# Altium footprint library SamacSys.PcbLib: 47 footprints (part 2 of 3)
Each footprint in its own frame and in the unit in brackets; x right, y up, seen from the top. Pads: shape width x height; smd on the part's side, far side on the other; paste and mask are expansions set on the pad; w line width, h text height; cw(c..) or ccw(c..) is an arc to the next point about the centre after c.
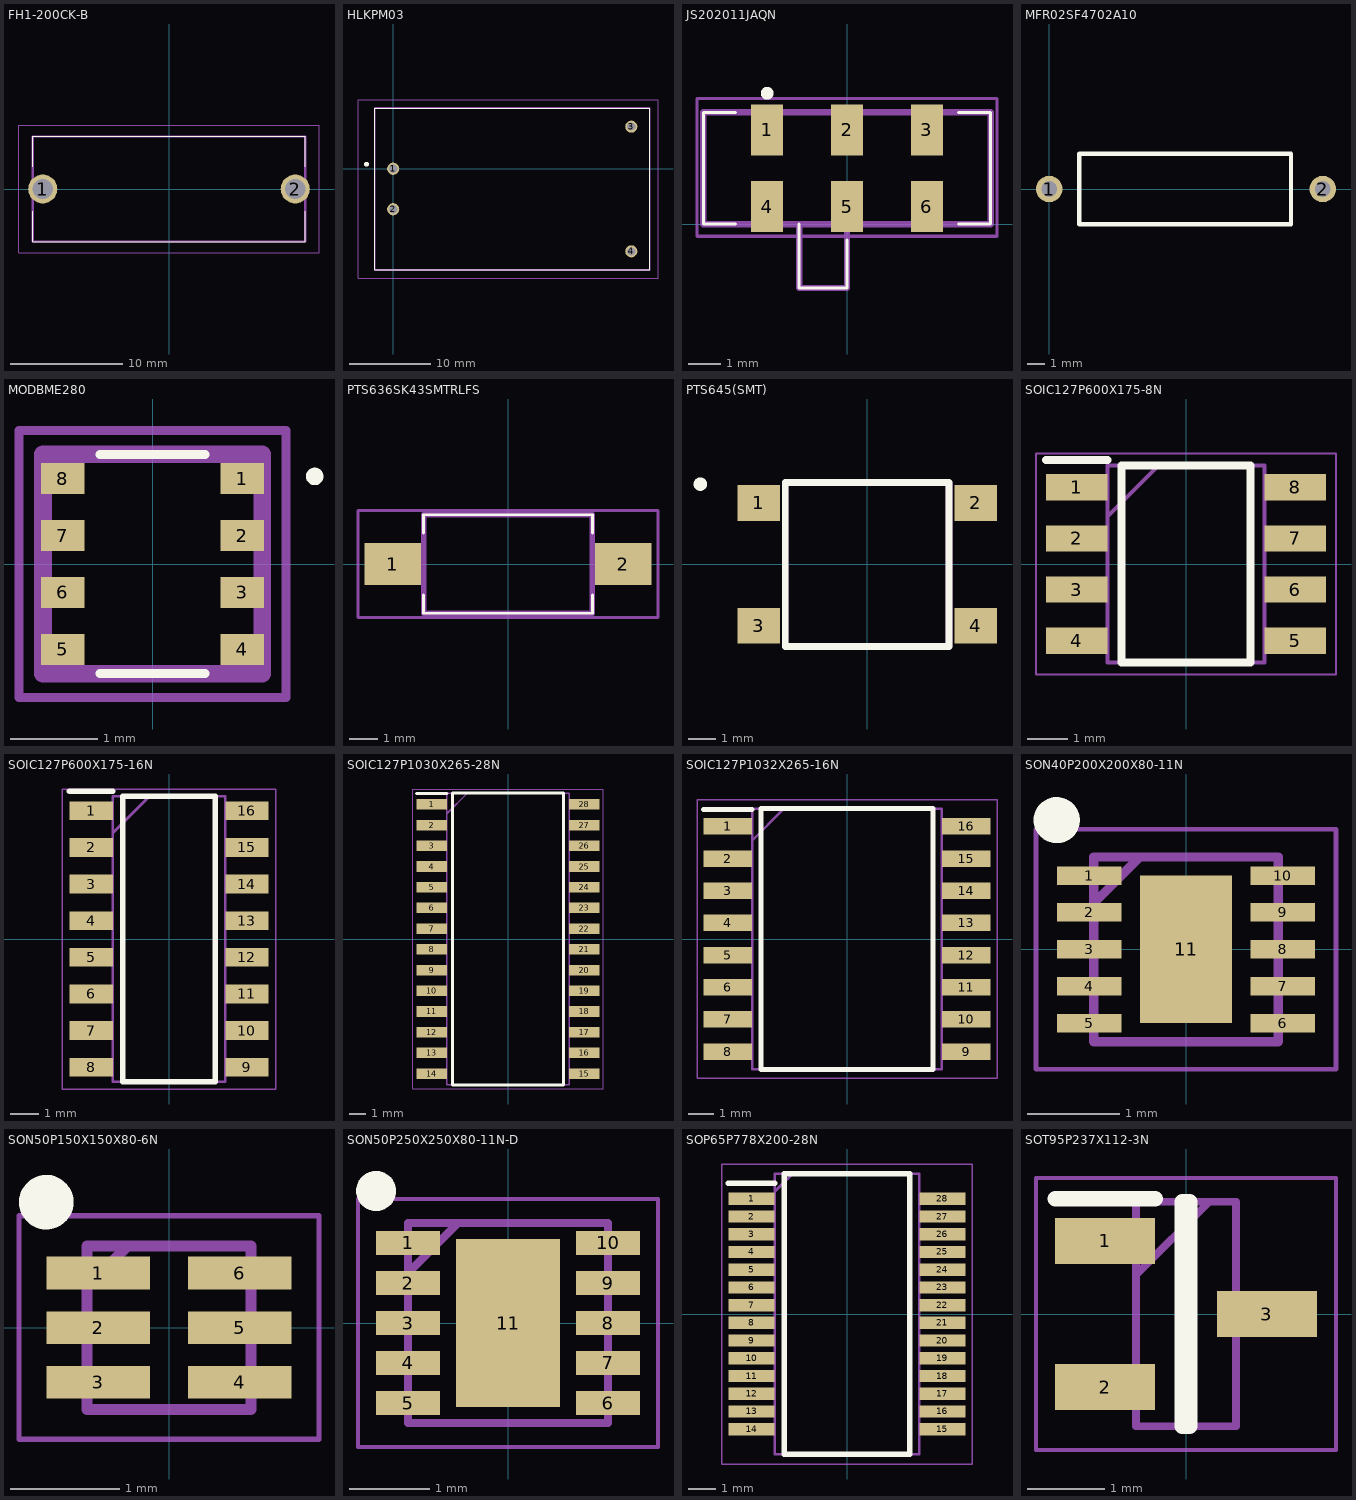
[diagram p1: the footprints below, top view; thin cyan lines are the x and y axes]

## FH1-200CK-B [mm]
pads (2):
  round 2.6 hole 1.8: 1(-11.3,0) 2(11.3,0)
Top Overlay:
  lines w0.1: -12.2,-2 -12.2,-4.7 12.2,-4.7 12.2,-2 ; -12.2,2 -12.2,4.7 12.2,4.7 12.2,2
Mechanical 13:
  lines w0.2: -12.2,-4.7 -12.2,4.7 12.2,4.7 12.2,-4.7 -12.2,-4.7
Mechanical 15:
  lines w0.1: -13.425,-5.7 -13.425,5.7 13.425,5.7 13.425,-5.7 -13.425,-5.7
3D body "0PTF0078P.stp": height 11.45, standoff -3.55, extent -12.2,-4.7 12.2,4.7

## HLKPM03 [mm]
pads (4):
  round 1.5 hole 1: 1(0,0) 2(0,-5) 3(29.4,5.2) 4(29.4,-10.2)
Top Overlay:
  lines w0.1: -2.3,-12.5 -2.3,7.5 31.7,7.5 31.7,-12.5 -2.3,-12.5
  lines w0.5: -3.3,0.5 cw(c-3.3,0.55) -3.3,0.6 cw(c-3.3,0.55) -3.3,0.5
Mechanical 13:
  lines w0.2: -2.3,-12.5 -2.3,7.5 31.7,7.5 31.7,-12.5 -2.3,-12.5
Mechanical 15:
  lines w0.1: -4.35,-13.5 -4.35,8.5 32.7,8.5 32.7,-13.5 -4.35,-13.5
3D body "HLK-PM03.stp": height 15.28, standoff -4.77, extent -2.25,-12.49 31.75,7.51

## JS202011JAQN [mm]
pads (6):
  rect 1x1.6 smd: 1(-2.5,2.95) 2(0,2.95) 3(2.5,2.95) 4(-2.5,0.55) 5(0,0.55) 6(2.5,0.55)
Top Overlay:
  lines w0.1: -3.5,0 -4.5,0 -4.5,3.5 -3.5,3.5 ; -1.5,0 -1.5,-2 0,-2 0,-0.5 ; 3.5,0 4.5,0 4.5,3.5 3.5,3.5
  lines w0.2: -2.6,4.1 cw(c-2.5,4.1) -2.4,4.1 cw(c-2.5,4.1) -2.6,4.1
Mechanical 13:
  lines w0.2: -1.5,0 -1.5,-2 0,-2 0,0 ; -4.5,0 4.5,0 4.5,3.5 -4.5,3.5 -4.5,0
Mechanical 15:
  lines w0.1: -4.699,-0.381 4.699,-0.381 4.699,3.937 -4.699,3.937 -4.699,-0.381
3D body "JS202011JAQN.step": height 3.57, standoff -0.03, extent -4.5,-2 4.5,3.55

## MFR02SF4702A10 [mm]
pads (2):
  round 1.5 hole 0.9: 1(0,0) 2(15.5,0)
Top Overlay:
  lines w0.254: 1.7,-2 1.7,-0.2 1.7,2 13.7,2 13.7,-2 1.7,-2

## MODBME280 [mm]
pads (8):
  rect 0.5x0.35 smd: 1(1.025,0.975) 2(1.025,0.325) 3(1.025,-0.325) 4(1.025,-0.975) 5(-1.025,-0.975) 6(-1.025,-0.325) 7(-1.025,0.325) 8(-1.025,0.975)
Top Overlay:
  lines w0.1: -0.6,-1.25 0.6,-1.25 ; -0.6,1.25 0.6,1.25 ; 1.8,1 cw(c1.85,1) 1.9,1 cw(c1.85,1) 1.8,1
Mechanical 13:
  lines w0.2: -1.25,-1.25 -1.25,1.25 1.25,1.25 1.25,-1.25 -1.25,-1.25
Mechanical 15:
  lines w0.1: -1.524,-1.524 -1.524,1.524 1.524,1.524 1.524,-1.524 -1.524,-1.524
3D body "MOD-BME280.stp": height 1.1, standoff 0, extent -1.25,-1.25 1.25,1.25

## PTS636SK43SMTRLFS [mm]
pads (2):
  rect 2x1.5 smd: 1(-4.1,0) 2(4.1,0)
Top Overlay:
  lines w0.1: -3,-1.1 -3,-1.75 3,-1.75 3,-1.1 ; -3,1.1 -3,1.75 3,1.75 3,1.1
Mechanical 13:
  lines w0.2: -3,-1.75 3,-1.75 3,1.75 -3,1.75 -3,-1.75
Mechanical 15:
  lines w0.1: -5.334,-1.905 5.334,-1.905 5.334,1.905 -5.334,1.905 -5.334,-1.905
3D body "PTS636SK43SMTRLFS.stp": height 4.3, standoff -0.03, extent -4.3,-1.75 4.3,1.75

## PTS645(SMT) [mm]
pads (4):
  rect 1.55x1.3 smd: 1(-3.975,2.25) 2(3.975,2.25) 3(-3.975,-2.25) 4(3.975,-2.25)
Top Overlay:
  circle w0.254: c-6.108,2.939 r0.121
  lines w0.254: -3,-3 -3,3 3,3 3,-3 -3,-3
Mechanical 13:
  lines w0.254: -3,-3 -3,3 3,3 3,-3 -3,-3

## SOIC127P600X175-8N [mm]
pads (8):
  rect 1.525x0.65 smd: 1(-2.712,1.905) 2(-2.712,0.635) 3(-2.712,-0.635) 4(-2.712,-1.905) 5(2.712,-1.905) 6(2.712,-0.635) 7(2.712,0.635) 8(2.712,1.905)
Top Overlay:
  lines w0.2: -3.475,2.58 -1.95,2.58 ; -1.6,-2.45 1.6,-2.45 1.6,2.45 -1.6,2.45 -1.6,-2.45
Mechanical 13:
  lines w0.1: -1.95,1.18 -0.68,2.45 ; -1.95,-2.45 1.95,-2.45 1.95,2.45 -1.95,2.45 -1.95,-2.45
Mechanical 15:
  lines w0.05: -3.725,-2.75 3.725,-2.75 3.725,2.75 -3.725,2.75 -3.725,-2.75
3D body "NE555DR.stp": height 1.75, standoff 0, extent -3,-2.45 3,2.45

## SOIC127P600X175-16N [mm]
pads (16):
  rect 1.5x0.65 smd: 1(-2.7,4.445) 2(-2.7,3.175) 3(-2.7,1.905) 4(-2.7,0.635) 5(-2.7,-0.635) 6(-2.7,-1.905) 7(-2.7,-3.175) 8(-2.7,-4.445) 9(2.7,-4.445) 10(2.7,-3.175) 11(2.7,-1.905) 12(2.7,-0.635) 13(2.7,0.635) 14(2.7,1.905) 15(2.7,3.175) 16(2.7,4.445)
Top Overlay:
  lines w0.2: -3.45,5.12 -1.95,5.12 ; -1.6,-4.95 1.6,-4.95 1.6,4.95 -1.6,4.95 -1.6,-4.95
Mechanical 13:
  lines w0.1: -1.95,3.68 -0.68,4.95 ; -1.95,-4.95 1.95,-4.95 1.95,4.95 -1.95,4.95 -1.95,-4.95
Mechanical 15:
  lines w0.05: -3.7,-5.2 3.7,-5.2 3.7,5.2 -3.7,5.2 -3.7,-5.2
3D body "MCP3208-CI_SL.stp": height 1.75, standoff 0, extent -3,-4.95 3,4.95

## SOIC127P1030X265-28N [mm]
pads (28):
  rect 1.85x0.65 smd: 1(-4.675,8.255) 2(-4.675,6.985) 3(-4.675,5.715) 4(-4.675,4.445) 5(-4.675,3.175) 6(-4.675,1.905) 7(-4.675,0.635) 8(-4.675,-0.635) 9(-4.675,-1.905) 10(-4.675,-3.175) 11(-4.675,-4.445) 12(-4.675,-5.715) 13(-4.675,-6.985) 14(-4.675,-8.255) 15(4.675,-8.255) 16(4.675,-6.985) 17(4.675,-5.715) 18(4.675,-4.445) 19(4.675,-3.175) 20(4.675,-1.905) 21(4.675,-0.635) 22(4.675,0.635) 23(4.675,1.905) 24(4.675,3.175) 25(4.675,4.445) 26(4.675,5.715) 27(4.675,6.985) 28(4.675,8.255)
Top Overlay:
  lines w0.2: -5.6,8.93 -3.75,8.93 ; -3.4,-8.95 -3.4,8.95 3.4,8.95 3.4,-8.95 -3.4,-8.95
Mechanical 13:
  lines w0.1: -3.75,7.68 -2.48,8.95 ; -3.75,-8.95 -3.75,8.95 3.75,8.95 3.75,-8.95 -3.75,-8.95
Mechanical 15:
  lines w0.05: -5.85,-9.2 -5.85,9.2 5.85,9.2 5.85,-9.2 -5.85,-9.2
3D body "MCP23017-E_SO.stp": height 2.65, standoff 0, extent -5.15,-8.95 5.15,8.95

## SOIC127P1032X265-16N [mm]
pads (16):
  rect 1.925x0.65 smd: 1(-4.712,4.445) 2(-4.712,3.175) 3(-4.712,1.905) 4(-4.712,0.635) 5(-4.712,-0.635) 6(-4.712,-1.905) 7(-4.712,-3.175) 8(-4.712,-4.445) 9(4.712,-4.445) 10(4.712,-3.175) 11(4.712,-1.905) 12(4.712,-0.635) 13(4.712,0.635) 14(4.712,1.905) 15(4.712,3.175) 16(4.712,4.445)
Top Overlay:
  lines w0.2: -5.675,5.12 -3.75,5.12 ; -3.4,-5.15 -3.4,5.15 3.4,5.15 3.4,-5.15 -3.4,-5.15
Mechanical 13:
  lines w0.1: -3.75,3.88 -2.48,5.15 ; -3.75,-5.15 -3.75,5.15 3.75,5.15 3.75,-5.15 -3.75,-5.15
Mechanical 15:
  lines w0.05: -5.925,-5.5 -5.925,5.5 5.925,5.5 5.925,-5.5 -5.925,-5.5
3D body "DS3231M+TRL.stp": height 2.65, standoff 0, extent -5.162,-5.15 5.162,5.15

## SON40P200X200X80-11N [mm]
pads (11):
  rect 0.7x0.2 smd: 1(-1.05,0.8) 2(-1.05,0.4) 3(-1.05,0) 4(-1.05,-0.4) 5(-1.05,-0.8) 6(1.05,-0.8) 7(1.05,-0.4) 8(1.05,0) 9(1.05,0.4) 10(1.05,0.8)
  rect 1x1.6 smd: 11(0,0)
Top Overlay:
  circle w0.25: c-1.4,1.4 r0.125
Mechanical 13:
  lines w0.1: -1,0.5 -0.5,1 ; -1,-1 -1,1 1,1 1,-1 -1,-1
Mechanical 15:
  lines w0.05: -1.625,-1.3 -1.625,1.3 1.625,1.3 1.625,-1.3 -1.625,-1.3
3D body "BQ24040DSQR.stp": height 0.8, standoff 0, extent -1.05,-1 1.05,1

## SON50P150X150X80-6N [mm]
pads (6):
  rect 0.95x0.3 smd: 1(-0.65,0.5) 2(-0.65,0) 3(-0.65,-0.5) 4(0.65,-0.5) 5(0.65,0) 6(0.65,0.5)
Top Overlay:
  circle w0.25: c-1.125,1.15 r0.125
Mechanical 13:
  lines w0.1: -0.75,0.375 -0.375,0.75 ; -0.75,-0.75 -0.75,0.75 0.75,0.75 0.75,-0.75 -0.75,-0.75
Mechanical 15:
  lines w0.05: -1.375,-1.025 -1.375,1.025 1.375,1.025 1.375,-1.025 -1.375,-1.025
3D body "BQ29733DSER.stp": height 0.8, standoff 0, extent -0.8,-0.75 0.8,0.75

## SON50P250X250X80-11N-D [mm]
pads (11):
  rect 0.8x0.3 smd: 1(-1.25,1) 2(-1.25,0.5) 3(-1.25,0) 4(-1.25,-0.5) 5(-1.25,-1) 6(1.25,-1) 7(1.25,-0.5) 8(1.25,0) 9(1.25,0.5) 10(1.25,1)
  rect 1.3x2.1 smd: 11(0,0)
Top Overlay:
  circle w0.25: c-1.65,1.65 r0.125
Mechanical 13:
  lines w0.1: -1.25,0.625 -0.625,1.25 ; -1.25,-1.25 1.25,-1.25 1.25,1.25 -1.25,1.25 -1.25,-1.25
Mechanical 15:
  lines w0.05: -1.875,-1.55 1.875,-1.55 1.875,1.55 -1.875,1.55 -1.875,-1.55
3D body "TPS63900DSKR.stp": height 0.8, standoff 0, extent -1.3,-1.25 1.3,1.25

## SOP65P778X200-28N [mm]
pads (28):
  rect 1.7x0.45 smd: 1(-3.5,4.225) 2(-3.5,3.575) 3(-3.5,2.925) 4(-3.5,2.275) 5(-3.5,1.625) 6(-3.5,0.975) 7(-3.5,0.325) 8(-3.5,-0.325) 9(-3.5,-0.975) 10(-3.5,-1.625) 11(-3.5,-2.275) 12(-3.5,-2.925) 13(-3.5,-3.575) 14(-3.5,-4.225) 15(3.5,-4.225) 16(3.5,-3.575) 17(3.5,-2.925) 18(3.5,-2.275) 19(3.5,-1.625) 20(3.5,-0.975) 21(3.5,-0.325) 22(3.5,0.325) 23(3.5,0.975) 24(3.5,1.625) 25(3.5,2.275) 26(3.5,2.925) 27(3.5,3.575) 28(3.5,4.225)
Top Overlay:
  lines w0.2: -4.35,4.8 -2.65,4.8 ; -2.3,-5.138 -2.3,5.138 2.3,5.138 2.3,-5.138 -2.3,-5.138
Mechanical 13:
  lines w0.1: -2.65,4.488 -2,5.138 ; -2.65,-5.138 -2.65,5.138 2.65,5.138 2.65,-5.138 -2.65,-5.138
Mechanical 15:
  lines w0.05: -4.6,-5.5 -4.6,5.5 4.6,5.5 4.6,-5.5 -4.6,-5.5
3D body "FT232RL-REEL.stp": height 2, standoff 0, extent -3.888,-5.138 3.888,5.138

## SOT95P237X112-3N [mm]
pads (3):
  rect 1.3x0.6 smd: 1(-1.05,0.95) 2(-1.05,-0.95) 3(1.05,0)
Top Overlay:
  lines w0.2: -1.7,1.5 -0.4,1.5 ; -0.05,-1.46 0.05,-1.46 0.05,1.46 -0.05,1.46 -0.05,-1.46
Mechanical 13:
  lines w0.1: -0.65,0.51 0.3,1.46 ; -0.65,-1.46 0.65,-1.46 0.65,1.46 -0.65,1.46 -0.65,-1.46
Mechanical 15:
  lines w0.05: -1.95,-1.77 1.95,-1.77 1.95,1.77 -1.95,1.77 -1.95,-1.77
3D body "SI2302CDS-T1-E3.stp": height 1.12, standoff 0, extent -1.185,-1.46 1.185,1.46